# Altium integrated library NXP Semiconductors Automotive MOSFETs.IntLib: 540 symbols (part 5 of 16)
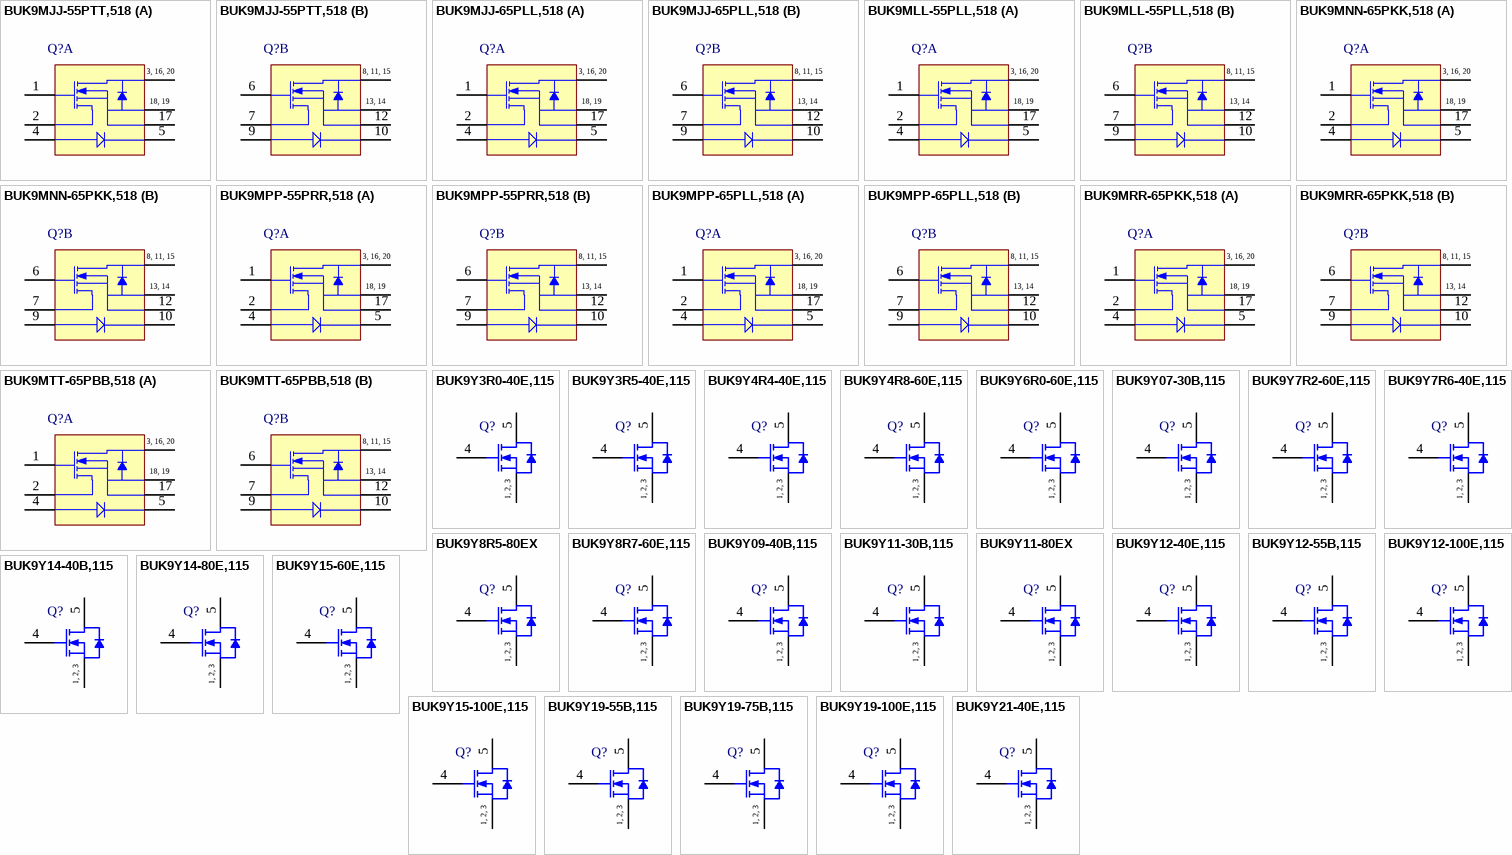
[diagram p18: symbols BUK9MJJ-55PTT,518 to BUK9Y21-40E,115]

## BUK9Y4R4-40E,115
designator Q?
N-Channel Logic Level MOSFET, 40 V, 100 A, 5-Pin SOT669, Tape and Reel; Manufacturer: NXP Semiconductors; PartNumber: BUK9Y4R4-40E,115; Automotive Qualified: Y; Channel Type: N; ID [max] (A): 100; IDM [max] (A): 516; Packing: Tape & Reel; Qr [typ] (nC): 16.5; VDS [max] (V): 40; VGSth [typ] (V): 1.7; PackageVersion: 13-02-27, 02/2013; PackageReference: SOT669; PackageDescription: 4-Pin Plastic Single-ended Surface Mounted Package, Body 4.9 x 3.95 mm, Pitch 1.27 mm; Supplier 1: Digi-Key; Supplier Part Number 1: 568-10982-2-ND; Supplier 2: Digi-Key; Supplier Part Number 2: 568-10982-1-ND; Supplier 3: Digi-Key; Supplier Part Number 3: 568-10982-6-ND; Supplier 4: Mouser; Supplier Part Number 4: 771-BUK9Y4R4-40E115; Mounting Technology: Surface Mount; Code_JEDEC: MO-235; ComponentLink1Description: Manufacturer URL; ComponentLink1URL: http://www.nxp.com/; ComponentLink2Description: Datasheet; ComponentLink2URL: http://www.nxp.com/documents/data_sheet/BUK9Y4R4-40E.pdf; ComponentLink3Description: Package Specification; ComponentLink3URL: http://www.nxp.com/documents/outline_drawing/sot669_po.pdf
footprint NXP-SOT669_N (DPAK, 4-Leads, Body 5x4.1mm, Pitch 1.27mm, IPC Medium Density)
footprint NXP-SOT669_L (DPAK, 4-Leads, Body 5x4.1mm, Pitch 1.27mm, IPC High Density)
footprint NXP-SOT669_M (DPAK, 4-Leads, Body 5x4.1mm, Pitch 1.27mm, IPC Low Density)
pins: 1 S "source", 2 S "source", 3 S "source", 4 G "gate", 5 D "mounting base; connected to drain"
text: 1, 2, 3

## BUK9Y4R8-60E,115
designator Q?
N-Channel Logic Level MOSFET, 60 V, 100 A, 5-Pin SOT669, Tape and Reel; Manufacturer: NXP Semiconductors; PartNumber: BUK9Y4R8-60E,115; Automotive Qualified: Y; Channel Type: N; ID [max] (A): 100; IDM [max] (A): 593; Packing: Tape & Reel; Qr [typ] (nC): 28; VDS [max] (V): 60; VGSth [typ] (V): 1.7; PackageVersion: 13-02-27, 02/2013; PackageReference: SOT669; PackageDescription: 4-Pin Plastic Single-ended Surface Mounted Package, Body 4.9 x 3.95 mm, Pitch 1.27 mm; Supplier 1: Digi-Key; Supplier Part Number 1: 568-10983-2-ND; Supplier 2: Digi-Key; Supplier Part Number 2: 568-10983-1-ND; Supplier 3: Digi-Key; Supplier Part Number 3: 568-10983-6-ND; Supplier 4: Mouser; Supplier Part Number 4: 771-BUK9Y4R8-60E115; Mounting Technology: Surface Mount; Code_JEDEC: MO-235; ComponentLink1Description: Manufacturer URL; ComponentLink1URL: http://www.nxp.com/; ComponentLink2Description: Datasheet; ComponentLink2URL: http://www.nxp.com/documents/data_sheet/BUK9Y4R8-60E.pdf; ComponentLink3Description: Package Specification; ComponentLink3URL: http://www.nxp.com/documents/outline_drawing/sot669_po.pdf
footprint NXP-SOT669_N (DPAK, 4-Leads, Body 5x4.1mm, Pitch 1.27mm, IPC Medium Density)
footprint NXP-SOT669_L (DPAK, 4-Leads, Body 5x4.1mm, Pitch 1.27mm, IPC High Density)
footprint NXP-SOT669_M (DPAK, 4-Leads, Body 5x4.1mm, Pitch 1.27mm, IPC Low Density)
pins: 1 S "source", 2 S "source", 3 S "source", 4 G "gate", 5 D "mounting base; connected to drain"
text: 1, 2, 3

## BUK9Y6R0-60E,115
designator Q?
N-Channel Logic Level MOSFET, 60 V, 100 A, 5-Pin SOT669, Tape and Reel; Manufacturer: NXP Semiconductors; PartNumber: BUK9Y6R0-60E,115; Automotive Qualified: Y; Channel Type: N; ID [max] (A): 100; IDM [max] (A): 479; Packing: Tape & Reel; Qr [typ] (nC): 23; VDS [max] (V): 60; VGSth [typ] (V): 1.7; PackageVersion: 13-02-27, 02/2013; PackageReference: SOT669; PackageDescription: 4-Pin Plastic Single-ended Surface Mounted Package, Body 4.9 x 3.95 mm, Pitch 1.27 mm; Supplier 1: Digi-Key; Supplier Part Number 1: 568-10984-2-ND; Supplier 2: Digi-Key; Supplier Part Number 2: 568-10984-1-ND; Supplier 3: Digi-Key; Supplier Part Number 3: 568-10984-6-ND; Supplier 4: Mouser; Supplier Part Number 4: 771-BUK9Y6R0-60E115; Mounting Technology: Surface Mount; Code_JEDEC: MO-235; ComponentLink1Description: Manufacturer URL; ComponentLink1URL: http://www.nxp.com/; ComponentLink2Description: Datasheet; ComponentLink2URL: http://www.nxp.com/documents/data_sheet/BUK9Y6R0-60E.pdf; ComponentLink3Description: Package Specification; ComponentLink3URL: http://www.nxp.com/documents/outline_drawing/sot669_po.pdf
footprint NXP-SOT669_N (DPAK, 4-Leads, Body 5x4.1mm, Pitch 1.27mm, IPC Medium Density)
footprint NXP-SOT669_L (DPAK, 4-Leads, Body 5x4.1mm, Pitch 1.27mm, IPC High Density)
footprint NXP-SOT669_M (DPAK, 4-Leads, Body 5x4.1mm, Pitch 1.27mm, IPC Low Density)
pins: 1 S "source", 2 S "source", 3 S "source", 4 G "gate", 5 D "mounting base; connected to drain"
text: 1, 2, 3

## BUK9Y07-30B,115
designator Q?
N-Channel TrenchMOS Logic Level FET, 30 V, 75 A, 5-Pin SOT669, Tape and Reel; Manufacturer: NXP Semiconductors; PartNumber: BUK9Y07-30B,115; Automotive Qualified: Y; Channel Type: N; ID [max] (A): 75; IDM [max] (A): 356; Packing: Tape & Reel; Qr [typ] (nC): 53.7; VDS [max] (V): 30; VGSth [typ] (V): 1.5; DatasheetVersion: Rev. 03; PackageVersion: 13-02-27, 02/2013; PackageReference: SOT669; PackageDescription: 4-Pin Plastic Single-ended Surface Mounted Package, Body 4.9 x 3.95 mm, Pitch 1.27 mm; Supplier 1: Digi-Key; Supplier Part Number 1: 568-5522-2-ND; Supplier 2: Digi-Key; Supplier Part Number 2: 568-5522-1-ND; Supplier 3: Digi-Key; Supplier Part Number 3: 568-5522-6-ND; Supplier 4: Mouser; Supplier Part Number 4: 771-BUK9Y07-30B115; Mounting Technology: Surface Mount; Code_JEDEC: MO-235; ComponentLink1Description: Manufacturer URL; ComponentLink1URL: http://www.nxp.com/; ComponentLink2Description: Datasheet; ComponentLink2URL: http://www.nxp.com/documents/data_sheet/BUK9Y07-30B.pdf; ComponentLink3Description: Package Specification; ComponentLink3URL: http://www.nxp.com/documents/outline_drawing/sot669_po.pdf
footprint NXP-SOT669_N (DPAK, 4-Leads, Body 5x4.1mm, Pitch 1.27mm, IPC Medium Density)
footprint NXP-SOT669_L (DPAK, 4-Leads, Body 5x4.1mm, Pitch 1.27mm, IPC High Density)
footprint NXP-SOT669_M (DPAK, 4-Leads, Body 5x4.1mm, Pitch 1.27mm, IPC Low Density)
pins: 1 S "source", 2 S "source", 3 S "source", 4 G "gate", 5 D "mounting base; connected to drain"
text: 1, 2, 3

## BUK9Y7R2-60E,115
designator Q?
N-Channel Logic Level MOSFET, 60 V, 100 A, 5-Pin SOT669, Tape and Reel; Manufacturer: NXP Semiconductors; PartNumber: BUK9Y7R2-60E,115; Automotive Qualified: Y; Channel Type: N; ID [max] (A): 100; IDM [max] (A): 405; Packing: Tape & Reel; Qr [typ] (nC): 18.1; VDS [max] (V): 60; VGSth [typ] (V): 1.7; PackageVersion: 13-02-27, 02/2013; PackageReference: SOT669; PackageDescription: 4-Pin Plastic Single-ended Surface Mounted Package, Body 4.9 x 3.95 mm, Pitch 1.27 mm; Supplier 1: Digi-Key; Supplier Part Number 1: 568-11428-2-ND; Supplier 2: Digi-Key; Supplier Part Number 2: 568-11428-1-ND; Supplier 3: Digi-Key; Supplier Part Number 3: 568-11428-6-ND; Supplier 4: Mouser; Supplier Part Number 4: 771-BUK9Y7R2-60E115; Mounting Technology: Surface Mount; Code_JEDEC: MO-235; ComponentLink1Description: Manufacturer URL; ComponentLink1URL: http://www.nxp.com/; ComponentLink2Description: Datasheet; ComponentLink2URL: http://www.nxp.com/documents/data_sheet/BUK9Y7R2-60E.pdf; ComponentLink3Description: Package Specification; ComponentLink3URL: http://www.nxp.com/documents/outline_drawing/sot669_po.pdf
footprint NXP-SOT669_N (DPAK, 4-Leads, Body 5x4.1mm, Pitch 1.27mm, IPC Medium Density)
footprint NXP-SOT669_L (DPAK, 4-Leads, Body 5x4.1mm, Pitch 1.27mm, IPC High Density)
footprint NXP-SOT669_M (DPAK, 4-Leads, Body 5x4.1mm, Pitch 1.27mm, IPC Low Density)
pins: 1 S "source", 2 S "source", 3 S "source", 4 G "gate", 5 D "mounting base; connected to drain"
text: 1, 2, 3

## BUK9Y7R6-40E,115
designator Q?
N-Channel Logic Level MOSFET, 40 V, 79 A, 5-Pin SOT669, Tape and Reel; Manufacturer: NXP Semiconductors; PartNumber: BUK9Y7R6-40E,115; Automotive Qualified: Y; Channel Type: N; ID [max] (A): 79; IDM [max] (A): 315; Packing: Tape & Reel; Qr [typ] (nC): 8.1; VDS [max] (V): 40; VGSth [typ] (V): 1.7; PackageVersion: 13-02-27, 02/2013; PackageReference: SOT669; PackageDescription: 4-Pin Plastic Single-ended Surface Mounted Package, Body 4.9 x 3.95 mm, Pitch 1.27 mm; Supplier 1: Digi-Key; Supplier Part Number 1: 568-10281-2-ND; Supplier 2: Digi-Key; Supplier Part Number 2: 568-10281-1-ND; Supplier 3: Digi-Key; Supplier Part Number 3: 568-10281-6-ND; Supplier 4: Mouser; Supplier Part Number 4: 771-BUK9Y7R6-40E115; Mounting Technology: Surface Mount; Code_JEDEC: MO-235; ComponentLink1Description: Manufacturer URL; ComponentLink1URL: http://www.nxp.com/; ComponentLink2Description: Datasheet; ComponentLink2URL: http://www.nxp.com/documents/data_sheet/BUK9Y7R6-40E.pdf; ComponentLink3Description: Package Specification; ComponentLink3URL: http://www.nxp.com/documents/outline_drawing/sot669_po.pdf
footprint NXP-SOT669_N (DPAK, 4-Leads, Body 5x4.1mm, Pitch 1.27mm, IPC Medium Density)
footprint NXP-SOT669_L (DPAK, 4-Leads, Body 5x4.1mm, Pitch 1.27mm, IPC High Density)
footprint NXP-SOT669_M (DPAK, 4-Leads, Body 5x4.1mm, Pitch 1.27mm, IPC Low Density)
pins: 1 S "source", 2 S "source", 3 S "source", 4 G "gate", 5 D "mounting base; connected to drain"
text: 1, 2, 3

## BUK9Y8R5-80EX
designator Q?
N-Channel Logic Level MOSFET, 80 V, 100 A, 5-Pin SOT669, Tape and Reel; Manufacturer: NXP Semiconductors; PartNumber: BUK9Y8R5-80EX; Automotive Qualified: Y; Channel Type: N; ID [max] (A): 100; IDM [max] (A): 423; Packing: Tape & Reel; Qr [typ] (nC): 36.3; VDS [max] (V): 80; VGSth [typ] (V): 1.7; PackageVersion: 13-02-27, 02/2013; PackageReference: SOT669; PackageDescription: 4-Pin Plastic Single-ended Surface Mounted Package, Body 4.9 x 3.95 mm, Pitch 1.27 mm; Supplier 1: Digi-Key; Supplier Part Number 1: 568-10282-2-ND; Supplier 2: Digi-Key; Supplier Part Number 2: 568-10282-1-ND; Supplier 3: Digi-Key; Supplier Part Number 3: 568-10282-6-ND; Supplier 4: Mouser; Supplier Part Number 4: 771-BUK9Y8R5-80EX; Mounting Technology: Surface Mount; Code_JEDEC: MO-235; ComponentLink1Description: Manufacturer URL; ComponentLink1URL: http://www.nxp.com/; ComponentLink2Description: Datasheet; ComponentLink2URL: http://www.nxp.com/documents/data_sheet/BUK9Y8R5-80E.pdf; ComponentLink3Description: Package Specification; ComponentLink3URL: http://www.nxp.com/documents/outline_drawing/sot669_po.pdf
footprint NXP-SOT669_N (DPAK, 4-Leads, Body 5x4.1mm, Pitch 1.27mm, IPC Medium Density)
footprint NXP-SOT669_L (DPAK, 4-Leads, Body 5x4.1mm, Pitch 1.27mm, IPC High Density)
footprint NXP-SOT669_M (DPAK, 4-Leads, Body 5x4.1mm, Pitch 1.27mm, IPC Low Density)
pins: 1 S "source", 2 S "source", 3 S "source", 4 G "gate", 5 D "mounting base; connected to drain"
text: 1, 2, 3

## BUK9Y8R7-60E,115
designator Q?
N-Channel Logic Level MOSFET, 60 V, 86 A, 5-Pin SOT669, Tape and Reel; Manufacturer: NXP Semiconductors; PartNumber: BUK9Y8R7-60E,115; Automotive Qualified: Y; Channel Type: N; ID [max] (A): 86; IDM [max] (A): 346; Packing: Tape & Reel; Qr [typ] (nC): 22.3; VDS [max] (V): 60; VGSth [typ] (V): 1.7; PackageVersion: 13-02-27, 02/2013; PackageReference: SOT669; PackageDescription: 4-Pin Plastic Single-ended Surface Mounted Package, Body 4.9 x 3.95 mm, Pitch 1.27 mm; Supplier 1: Digi-Key; Supplier Part Number 1: 568-10283-2-ND; Supplier 2: Digi-Key; Supplier Part Number 2: 568-10283-1-ND; Supplier 3: Digi-Key; Supplier Part Number 3: 568-10283-6-ND; Supplier 4: Mouser; Supplier Part Number 4: 771-BUK9Y8R7-60E115; Mounting Technology: Surface Mount; Code_JEDEC: MO-235; ComponentLink1Description: Manufacturer URL; ComponentLink1URL: http://www.nxp.com/; ComponentLink2Description: Datasheet; ComponentLink2URL: http://www.nxp.com/documents/data_sheet/BUK9Y8R7-60E.pdf; ComponentLink3Description: Package Specification; ComponentLink3URL: http://www.nxp.com/documents/outline_drawing/sot669_po.pdf
footprint NXP-SOT669_N (DPAK, 4-Leads, Body 5x4.1mm, Pitch 1.27mm, IPC Medium Density)
footprint NXP-SOT669_L (DPAK, 4-Leads, Body 5x4.1mm, Pitch 1.27mm, IPC High Density)
footprint NXP-SOT669_M (DPAK, 4-Leads, Body 5x4.1mm, Pitch 1.27mm, IPC Low Density)
pins: 1 S "source", 2 S "source", 3 S "source", 4 G "gate", 5 D "mounting base; connected to drain"
text: 1, 2, 3

## BUK9Y09-40B,115
designator Q?
N-Channel TrenchMOS Logic Level FET, 40 V, 75 A, 5-Pin SOT669, Tape and Reel; Manufacturer: NXP Semiconductors; PartNumber: BUK9Y09-40B,115; Automotive Qualified: Y; Channel Type: N; ID [max] (A): 75; IDM [max] (A): 300; Packing: Tape & Reel; Qr [typ] (nC): 66; VDS [max] (V): 40; VGSth [typ] (V): 1.65; DatasheetVersion: Rev. 04; PackageVersion: 13-02-27, 02/2013; PackageReference: SOT669; PackageDescription: 4-Pin Plastic Single-ended Surface Mounted Package, Body 4.9 x 3.95 mm, Pitch 1.27 mm; Supplier 1: Digi-Key; Supplier Part Number 1: 568-5523-2-ND; Supplier 2: Digi-Key; Supplier Part Number 2: 568-5523-1-ND; Supplier 3: Digi-Key; Supplier Part Number 3: 568-5523-6-ND; Supplier 4: Mouser; Supplier Part Number 4: 771-BUK9Y0940B115; Mounting Technology: Surface Mount; Code_JEDEC: MO-235; ComponentLink1Description: Manufacturer URL; ComponentLink1URL: http://www.nxp.com/; ComponentLink2Description: Datasheet; ComponentLink2URL: http://www.nxp.com/documents/data_sheet/BUK9Y09-40B.pdf; ComponentLink3Description: Package Specification; ComponentLink3URL: http://www.nxp.com/documents/outline_drawing/sot669_po.pdf
footprint NXP-SOT669_N (DPAK, 4-Leads, Body 5x4.1mm, Pitch 1.27mm, IPC Medium Density)
footprint NXP-SOT669_L (DPAK, 4-Leads, Body 5x4.1mm, Pitch 1.27mm, IPC High Density)
footprint NXP-SOT669_M (DPAK, 4-Leads, Body 5x4.1mm, Pitch 1.27mm, IPC Low Density)
pins: 1 S "source", 2 S "source", 3 S "source", 4 G "gate", 5 D "mounting base; connected to drain"
text: 1, 2, 3

## BUK9Y11-30B,115
designator Q?
N-Channel TrenchMOS Logic Level FET, 30 V, 59 A, 5-Pin SOT669, Tape and Reel; Manufacturer: NXP Semiconductors; PartNumber: BUK9Y11-30B,115; Automotive Qualified: Y; Channel Type: N; ID [max] (A): 59; IDM [max] (A): 239; Packing: Tape & Reel; Qr [typ] (nC): 20; VDS [max] (V): 30; VGSth [typ] (V): 1.5; DatasheetVersion: Rev. 01; PackageVersion: 13-02-27, 02/2013; PackageReference: SOT669; PackageDescription: 4-Pin Plastic Single-ended Surface Mounted Package, Body 4.9 x 3.95 mm, Pitch 1.27 mm; Supplier 1: Digi-Key; Supplier Part Number 1: 568-6233-2-ND; Supplier 2: Digi-Key; Supplier Part Number 2: 568-6233-1-ND; Supplier 3: Digi-Key; Supplier Part Number 3: 568-6233-6-ND; Supplier 4: Newark; Supplier Part Number 4: 79R1852; Supplier 5: Mouser; Supplier Part Number 5: 771-BUK9Y11-30B,115; Mounting Technology: Surface Mount; Code_JEDEC: MO-235; ComponentLink1Description: Manufacturer URL; ComponentLink1URL: http://www.nxp.com/; ComponentLink2Description: Datasheet; ComponentLink2URL: http://www.nxp.com/documents/data_sheet/BUK9Y11-30B.pdf; ComponentLink3Description: Package Specification; ComponentLink3URL: http://www.nxp.com/documents/outline_drawing/sot669_po.pdf
footprint NXP-SOT669_N (DPAK, 4-Leads, Body 5x4.1mm, Pitch 1.27mm, IPC Medium Density)
footprint NXP-SOT669_L (DPAK, 4-Leads, Body 5x4.1mm, Pitch 1.27mm, IPC High Density)
footprint NXP-SOT669_M (DPAK, 4-Leads, Body 5x4.1mm, Pitch 1.27mm, IPC Low Density)
pins: 1 S "source", 2 S "source", 3 S "source", 4 G "gate", 5 D "mounting base; connected to drain"
text: 1, 2, 3

## BUK9Y11-80EX
designator Q?
N-Channel Logic Level MOSFET, 80 V, 84 A, 5-Pin SOT669, Tape and Reel; Manufacturer: NXP Semiconductors; PartNumber: BUK9Y11-80EX; Automotive Qualified: Y; Channel Type: N; ID [max] (A): 84; IDM [max] (A): 336; Packing: Tape & Reel; Qr [typ] (nC): 32; VDS [max] (V): 80; VGSth [typ] (V): 1.7; PackageVersion: 13-02-27, 02/2013; PackageReference: SOT669; PackageDescription: 4-Pin Plastic Single-ended Surface Mounted Package, Body 4.9 x 3.95 mm, Pitch 1.27 mm; Supplier 1: Digi-Key; Supplier Part Number 1: 568-10275-2-ND; Supplier 2: Digi-Key; Supplier Part Number 2: 568-10275-1-ND; Supplier 3: Digi-Key; Supplier Part Number 3: 568-10275-6-ND; Supplier 4: Mouser; Supplier Part Number 4: 771-BUK9Y11-80EX; Mounting Technology: Surface Mount; Code_JEDEC: MO-235; ComponentLink1Description: Manufacturer URL; ComponentLink1URL: http://www.nxp.com/; ComponentLink2Description: Datasheet; ComponentLink2URL: http://www.nxp.com/documents/data_sheet/BUK9Y11-80E.pdf; ComponentLink3Description: Package Specification; ComponentLink3URL: http://www.nxp.com/documents/outline_drawing/sot669_po.pdf
footprint NXP-SOT669_N (DPAK, 4-Leads, Body 5x4.1mm, Pitch 1.27mm, IPC Medium Density)
footprint NXP-SOT669_L (DPAK, 4-Leads, Body 5x4.1mm, Pitch 1.27mm, IPC High Density)
footprint NXP-SOT669_M (DPAK, 4-Leads, Body 5x4.1mm, Pitch 1.27mm, IPC Low Density)
pins: 1 S "source", 2 S "source", 3 S "source", 4 G "gate", 5 D "mounting base; connected to drain"
text: 1, 2, 3

## BUK9Y12-40E,115
designator Q?
N-Channel Logic Level MOSFET, 40 V, 52 A, 5-Pin SOT669, Tape and Reel; Manufacturer: NXP Semiconductors; PartNumber: BUK9Y12-40E,115; Automotive Qualified: Y; Channel Type: N; ID [max] (A): 52; IDM [max] (A): 208; Packing: Tape & Reel; Qr [typ] (nC): 6; VDS [max] (V): 40; VGSth [typ] (V): 1.7; PackageVersion: 13-02-27, 02/2013; PackageReference: SOT669; PackageDescription: 4-Pin Plastic Single-ended Surface Mounted Package, Body 4.9 x 3.95 mm, Pitch 1.27 mm; Supplier 1: Digi-Key; Supplier Part Number 1: 568-10277-2-ND; Supplier 2: Digi-Key; Supplier Part Number 2: 568-10277-1-ND; Supplier 3: Digi-Key; Supplier Part Number 3: 568-10277-6-ND; Supplier 4: Mouser; Supplier Part Number 4: 771-BUK9Y12-40E115; Mounting Technology: Surface Mount; Code_JEDEC: MO-235; ComponentLink1Description: Manufacturer URL; ComponentLink1URL: http://www.nxp.com/; ComponentLink2Description: Datasheet; ComponentLink2URL: http://www.nxp.com/documents/data_sheet/BUK9Y12-40E.pdf; ComponentLink3Description: Package Specification; ComponentLink3URL: http://www.nxp.com/documents/outline_drawing/sot669_po.pdf
footprint NXP-SOT669_N (DPAK, 4-Leads, Body 5x4.1mm, Pitch 1.27mm, IPC Medium Density)
footprint NXP-SOT669_L (DPAK, 4-Leads, Body 5x4.1mm, Pitch 1.27mm, IPC High Density)
footprint NXP-SOT669_M (DPAK, 4-Leads, Body 5x4.1mm, Pitch 1.27mm, IPC Low Density)
pins: 1 S "source", 2 S "source", 3 S "source", 4 G "gate", 5 D "mounting base; connected to drain"
text: 1, 2, 3

## BUK9Y12-55B,115
designator Q?
N-Channel TrenchMOS Logic Level FET, 55 V, 61.8 A, 5-Pin SOT669, Tape and Reel; Manufacturer: NXP Semiconductors; PartNumber: BUK9Y12-55B,115; Automotive Qualified: Y; Channel Type: N; ID [max] (A): 61.8; IDM [max] (A): 247; Packing: Tape & Reel; Qr [typ] (nC): 83; VDS [max] (V): 55; VGSth [typ] (V): 1.65; DatasheetVersion: Rev. 04; PackageVersion: 13-02-27, 02/2013; PackageReference: SOT669; PackageDescription: 4-Pin Plastic Single-ended Surface Mounted Package, Body 4.9 x 3.95 mm, Pitch 1.27 mm; Supplier 1: Digi-Key; Supplier Part Number 1: 568-5525-2-ND; Supplier 2: Digi-Key; Supplier Part Number 2: 568-5525-1-ND; Supplier 3: Digi-Key; Supplier Part Number 3: 568-5525-6-ND; Supplier 4: Mouser; Supplier Part Number 4: 771-BUK9Y12-55B115; Mounting Technology: Surface Mount; Code_JEDEC: MO-235; ComponentLink1Description: Manufacturer URL; ComponentLink1URL: http://www.nxp.com/; ComponentLink2Description: Datasheet; ComponentLink2URL: http://www.nxp.com/documents/data_sheet/BUK9Y12-55B.pdf; ComponentLink3Description: Package Specification; ComponentLink3URL: http://www.nxp.com/documents/outline_drawing/sot669_po.pdf
footprint NXP-SOT669_N (DPAK, 4-Leads, Body 5x4.1mm, Pitch 1.27mm, IPC Medium Density)
footprint NXP-SOT669_L (DPAK, 4-Leads, Body 5x4.1mm, Pitch 1.27mm, IPC High Density)
footprint NXP-SOT669_M (DPAK, 4-Leads, Body 5x4.1mm, Pitch 1.27mm, IPC Low Density)
pins: 1 S "source", 2 S "source", 3 S "source", 4 G "gate", 5 D "mounting base; connected to drain"
text: 1, 2, 3

## BUK9Y12-100E,115
designator Q?
N-Channel Logic Level MOSFET, 100 V, 85 A, 5-Pin SOT669, Tape and Reel; Manufacturer: NXP Semiconductors; PartNumber: BUK9Y12-100E,115; Automotive Qualified: Y; Channel Type: N; ID [max] (A): 85; IDM [max] (A): 339; Packing: Tape & Reel; Qr [typ] (nC): 65; VDS [max] (V): 100; VGSth [typ] (V): 1.7; PackageVersion: 13-02-27, 02/2013; PackageReference: SOT669; PackageDescription: 4-Pin Plastic Single-ended Surface Mounted Package, Body 4.9 x 3.95 mm, Pitch 1.27 mm; Supplier 1: Digi-Key; Supplier Part Number 1: 568-10276-2-ND; Supplier 2: Digi-Key; Supplier Part Number 2: 568-10276-1-ND; Supplier 3: Digi-Key; Supplier Part Number 3: 568-10276-6-ND; Supplier 4: Mouser; Supplier Part Number 4: 771-BUK9Y12-100E115; Mounting Technology: Surface Mount; Code_JEDEC: MO-235; ComponentLink1Description: Manufacturer URL; ComponentLink1URL: http://www.nxp.com/; ComponentLink2Description: Datasheet; ComponentLink2URL: http://www.nxp.com/documents/data_sheet/BUK9Y12-100E.pdf; ComponentLink3Description: Package Specification; ComponentLink3URL: http://www.nxp.com/documents/outline_drawing/sot669_po.pdf
footprint NXP-SOT669_N (DPAK, 4-Leads, Body 5x4.1mm, Pitch 1.27mm, IPC Medium Density)
footprint NXP-SOT669_L (DPAK, 4-Leads, Body 5x4.1mm, Pitch 1.27mm, IPC High Density)
footprint NXP-SOT669_M (DPAK, 4-Leads, Body 5x4.1mm, Pitch 1.27mm, IPC Low Density)
pins: 1 S "source", 2 S "source", 3 S "source", 4 G "gate", 5 D "mounting base; connected to drain"
text: 1, 2, 3

## BUK9Y14-40B,115
designator Q?
N-Channel TrenchMOS Logic Level FET, 40 V, 56 A, 5-Pin SOT669, Tape and Reel; Manufacturer: NXP Semiconductors; PartNumber: BUK9Y14-40B,115; Automotive Qualified: Y; Channel Type: N; ID [max] (A): 56; IDM [max] (A): 226; Packing: Tape & Reel; Qr [typ] (nC): 26; VDS [max] (V): 40; VGSth [typ] (V): 1.5; DatasheetVersion: Rev. 03; PackageVersion: 13-02-27, 02/2013; PackageReference: SOT669; PackageDescription: 4-Pin Plastic Single-ended Surface Mounted Package, Body 4.9 x 3.95 mm, Pitch 1.27 mm; Supplier 1: Digi-Key; Supplier Part Number 1: 568-6234-2-ND; Supplier 2: Digi-Key; Supplier Part Number 2: 568-6234-1-ND; Supplier 3: Digi-Key; Supplier Part Number 3: 568-6234-6-ND; Supplier 4: Newark; Supplier Part Number 4: 79R1853; Supplier 5: Mouser; Supplier Part Number 5: 771-BUK9Y14-40B,115; Mounting Technology: Surface Mount; Code_JEDEC: MO-235; ComponentLink1Description: Manufacturer URL; ComponentLink1URL: http://www.nxp.com/; ComponentLink2Description: Datasheet; ComponentLink2URL: http://www.nxp.com/documents/data_sheet/BUK9Y14-40B.pdf; ComponentLink3Description: Package Specification; ComponentLink3URL: http://www.nxp.com/documents/outline_drawing/sot669_po.pdf
footprint NXP-SOT669_N (DPAK, 4-Leads, Body 5x4.1mm, Pitch 1.27mm, IPC Medium Density)
footprint NXP-SOT669_L (DPAK, 4-Leads, Body 5x4.1mm, Pitch 1.27mm, IPC High Density)
footprint NXP-SOT669_M (DPAK, 4-Leads, Body 5x4.1mm, Pitch 1.27mm, IPC Low Density)
pins: 1 S "source", 2 S "source", 3 S "source", 4 G "gate", 5 D "mounting base; connected to drain"
text: 1, 2, 3

## BUK9Y14-80E,115
designator Q?
N-Channel Logic Level MOSFET, 80 V, 62 A, 5-Pin SOT669, Tape and Reel; Manufacturer: NXP Semiconductors; PartNumber: BUK9Y14-80E,115; Automotive Qualified: Y; Channel Type: N; ID [max] (A): 62; IDM [max] (A): 250; Packing: Tape & Reel; Qr [typ] (nC): 29.3; VDS [max] (V): 80; VGSth [typ] (V): 1.7; PackageVersion: 13-02-27, 02/2013; PackageReference: SOT669; PackageDescription: 4-Pin Plastic Single-ended Surface Mounted Package, Body 4.9 x 3.95 mm, Pitch 1.27 mm; Supplier 1: Digi-Key; Supplier Part Number 1: 568-11424-2-ND; Supplier 2: Digi-Key; Supplier Part Number 2: 568-11424-1-ND; Supplier 3: Digi-Key; Supplier Part Number 3: 568-11424-6-ND; Supplier 4: Mouser; Supplier Part Number 4: 771-BUK9Y14-80E115; Mounting Technology: Surface Mount; Code_JEDEC: MO-235; ComponentLink1Description: Manufacturer URL; ComponentLink1URL: http://www.nxp.com/; ComponentLink2Description: Datasheet; ComponentLink2URL: http://www.nxp.com/documents/data_sheet/BUK9Y14-80E.pdf; ComponentLink3Description: Package Specification; ComponentLink3URL: http://www.nxp.com/documents/outline_drawing/sot669_po.pdf
footprint NXP-SOT669_N (DPAK, 4-Leads, Body 5x4.1mm, Pitch 1.27mm, IPC Medium Density)
footprint NXP-SOT669_L (DPAK, 4-Leads, Body 5x4.1mm, Pitch 1.27mm, IPC High Density)
footprint NXP-SOT669_M (DPAK, 4-Leads, Body 5x4.1mm, Pitch 1.27mm, IPC Low Density)
pins: 1 S "source", 2 S "source", 3 S "source", 4 G "gate", 5 D "mounting base; connected to drain"
text: 1, 2, 3

## BUK9Y15-60E,115
designator Q?
N-Channel Logic Level MOSFET, 60 V, 53 A, 5-Pin SOT669, Tape and Reel; Manufacturer: NXP Semiconductors; PartNumber: BUK9Y15-60E,115; Automotive Qualified: Y; Channel Type: N; ID [max] (A): 53; IDM [max] (A): 212; Packing: Tape & Reel; Qr [typ] (nC): 18.7; VDS [max] (V): 60; VGSth [typ] (V): 1.7; PackageVersion: 13-02-27, 02/2013; PackageReference: SOT669; PackageDescription: 4-Pin Plastic Single-ended Surface Mounted Package, Body 4.9 x 3.95 mm, Pitch 1.27 mm; Supplier 1: Digi-Key; Supplier Part Number 1: 568-10974-2-ND; Supplier 2: Digi-Key; Supplier Part Number 2: 568-10974-1-ND; Supplier 3: Digi-Key; Supplier Part Number 3: 568-10974-6-ND; Supplier 4: Mouser; Supplier Part Number 4: 771-BUK9Y15-60E115; Mounting Technology: Surface Mount; Code_JEDEC: MO-235; ComponentLink1Description: Manufacturer URL; ComponentLink1URL: http://www.nxp.com/; ComponentLink2Description: Datasheet; ComponentLink2URL: http://www.nxp.com/documents/data_sheet/BUK9Y15-60E.pdf; ComponentLink3Description: Package Specification; ComponentLink3URL: http://www.nxp.com/documents/outline_drawing/sot669_po.pdf
footprint NXP-SOT669_N (DPAK, 4-Leads, Body 5x4.1mm, Pitch 1.27mm, IPC Medium Density)
footprint NXP-SOT669_L (DPAK, 4-Leads, Body 5x4.1mm, Pitch 1.27mm, IPC High Density)
footprint NXP-SOT669_M (DPAK, 4-Leads, Body 5x4.1mm, Pitch 1.27mm, IPC Low Density)
pins: 1 S "source", 2 S "source", 3 S "source", 4 G "gate", 5 D "mounting base; connected to drain"
text: 1, 2, 3

## BUK9Y15-100E,115
designator Q?
N-Channel Logic Level MOSFET, 100 V, 69 A, 5-Pin SOT669, Tape and Reel; Manufacturer: NXP Semiconductors; PartNumber: BUK9Y15-100E,115; Automotive Qualified: Y; Channel Type: N; ID [max] (A): 69; IDM [max] (A): 274; Packing: Tape & Reel; Qr [typ] (nC): 64; VDS [max] (V): 100; VGSth [typ] (V): 1.7; PackageVersion: 13-02-27, 02/2013; PackageReference: SOT669; PackageDescription: 4-Pin Plastic Single-ended Surface Mounted Package, Body 4.9 x 3.95 mm, Pitch 1.27 mm; Supplier 1: Digi-Key; Supplier Part Number 1: 568-10972-2-ND; Supplier 2: Digi-Key; Supplier Part Number 2: 568-10972-1-ND; Supplier 3: Digi-Key; Supplier Part Number 3: 568-10972-6-ND; Supplier 4: Mouser; Supplier Part Number 4: 771-BUK9Y15-100E115; Mounting Technology: Surface Mount; Code_JEDEC: MO-235; ComponentLink1Description: Manufacturer URL; ComponentLink1URL: http://www.nxp.com/; ComponentLink2Description: Datasheet; ComponentLink2URL: http://www.nxp.com/documents/data_sheet/BUK9Y15-100E.pdf; ComponentLink3Description: Package Specification; ComponentLink3URL: http://www.nxp.com/documents/outline_drawing/sot669_po.pdf
footprint NXP-SOT669_N (DPAK, 4-Leads, Body 5x4.1mm, Pitch 1.27mm, IPC Medium Density)
footprint NXP-SOT669_L (DPAK, 4-Leads, Body 5x4.1mm, Pitch 1.27mm, IPC High Density)
footprint NXP-SOT669_M (DPAK, 4-Leads, Body 5x4.1mm, Pitch 1.27mm, IPC Low Density)
pins: 1 S "source", 2 S "source", 3 S "source", 4 G "gate", 5 D "mounting base; connected to drain"
text: 1, 2, 3

## BUK9Y19-55B,115
designator Q?
N-Channel TrenchMOS Logic Level FET, 55 V, 46 A, 5-Pin SOT669, Tape and Reel; Manufacturer: NXP Semiconductors; PartNumber: BUK9Y19-55B,115; Automotive Qualified: Y; Channel Type: N; ID [max] (A): 46; IDM [max] (A): 184; Packing: Tape & Reel; Qr [typ] (nC): 38; VDS [max] (V): 55; VGSth [typ] (V): 1.5; DatasheetVersion: Rev. 03; PackageVersion: 13-02-27, 02/2013; PackageReference: SOT669; PackageDescription: 4-Pin Plastic Single-ended Surface Mounted Package, Body 4.9 x 3.95 mm, Pitch 1.27 mm; Supplier 1: Digi-Key; Supplier Part Number 1: 568-6235-2-ND; Supplier 2: Digi-Key; Supplier Part Number 2: 568-6235-1-ND; Supplier 3: Digi-Key; Supplier Part Number 3: 568-6235-6-ND; Supplier 4: Newark; Supplier Part Number 4: 79R1854; Supplier 5: Mouser; Supplier Part Number 5: 771-BUK9Y19-55B115; Mounting Technology: Surface Mount; Code_JEDEC: MO-235; ComponentLink1Description: Manufacturer URL; ComponentLink1URL: http://www.nxp.com/; ComponentLink2Description: Datasheet; ComponentLink2URL: http://www.nxp.com/documents/data_sheet/BUK9Y19-55B.pdf; ComponentLink3Description: Package Specification; ComponentLink3URL: http://www.nxp.com/documents/outline_drawing/sot669_po.pdf
footprint NXP-SOT669_N (DPAK, 4-Leads, Body 5x4.1mm, Pitch 1.27mm, IPC Medium Density)
footprint NXP-SOT669_L (DPAK, 4-Leads, Body 5x4.1mm, Pitch 1.27mm, IPC High Density)
footprint NXP-SOT669_M (DPAK, 4-Leads, Body 5x4.1mm, Pitch 1.27mm, IPC Low Density)
pins: 1 S "source", 2 S "source", 3 S "source", 4 G "gate", 5 D "mounting base; connected to drain"
text: 1, 2, 3

## BUK9Y19-75B,115
designator Q?
N-Channel TrenchMOS Logic Level FET, 75 V, 48.2 A, 5-Pin SOT669, Tape and Reel; Manufacturer: NXP Semiconductors; PartNumber: BUK9Y19-75B,115; Automotive Qualified: Y; Channel Type: N; ID [max] (A): 48.2; IDM [max] (A): 192; Packing: Tape & Reel; Qr [typ] (nC): 145; VDS [max] (V): 75; VGSth [typ] (V): 1.65; DatasheetVersion: Rev. 04; PackageVersion: 13-02-27, 02/2013; PackageReference: SOT669; PackageDescription: 4-Pin Plastic Single-ended Surface Mounted Package, Body 4.9 x 3.95 mm, Pitch 1.27 mm; Supplier 1: Digi-Key; Supplier Part Number 1: 568-5526-2-ND; Supplier 2: Digi-Key; Supplier Part Number 2: 568-5526-1-ND; Supplier 3: Digi-Key; Supplier Part Number 3: 568-5526-6-ND; Supplier 4: Mouser; Supplier Part Number 4: 771-BUK9Y19-75B115; Mounting Technology: Surface Mount; Code_JEDEC: MO-235; ComponentLink1Description: Manufacturer URL; ComponentLink1URL: http://www.nxp.com/; ComponentLink2Description: Datasheet; ComponentLink2URL: http://www.nxp.com/documents/data_sheet/BUK9Y19-75B.pdf; ComponentLink3Description: Package Specification; ComponentLink3URL: http://www.nxp.com/documents/outline_drawing/sot669_po.pdf
footprint NXP-SOT669_N (DPAK, 4-Leads, Body 5x4.1mm, Pitch 1.27mm, IPC Medium Density)
footprint NXP-SOT669_L (DPAK, 4-Leads, Body 5x4.1mm, Pitch 1.27mm, IPC High Density)
footprint NXP-SOT669_M (DPAK, 4-Leads, Body 5x4.1mm, Pitch 1.27mm, IPC Low Density)
pins: 1 S "source", 2 S "source", 3 S "source", 4 G "gate", 5 D "mounting base; connected to drain"
text: 1, 2, 3

## BUK9Y19-100E,115
designator Q?
N-Channel Logic Level MOSFET, 100 V, 56 A, 5-Pin SOT669, Tape and Reel; Manufacturer: NXP Semiconductors; PartNumber: BUK9Y19-100E,115; Automotive Qualified: Y; Channel Type: N; ID [max] (A): 56; IDM [max] (A): 226; Packing: Tape & Reel; Qr [typ] (nC): 67.7; VDS [max] (V): 100; VGSth [typ] (V): 1.7; PackageVersion: 13-02-27, 02/2013; PackageReference: SOT669; PackageDescription: 4-Pin Plastic Single-ended Surface Mounted Package, Body 4.9 x 3.95 mm, Pitch 1.27 mm; Supplier 1: Digi-Key; Supplier Part Number 1: 568-11546-2-ND; Supplier 2: Digi-Key; Supplier Part Number 2: 568-11546-1-ND; Supplier 3: Digi-Key; Supplier Part Number 3: 568-11546-6-ND; Supplier 4: Mouser; Supplier Part Number 4: 771-BUK9Y19-100E115; Mounting Technology: Surface Mount; Code_JEDEC: MO-235; ComponentLink1Description: Manufacturer URL; ComponentLink1URL: http://www.nxp.com/; ComponentLink2Description: Datasheet; ComponentLink2URL: http://www.nxp.com/documents/data_sheet/BUK9Y19-100E.pdf; ComponentLink3Description: Package Specification; ComponentLink3URL: http://www.nxp.com/documents/outline_drawing/sot669_po.pdf
footprint NXP-SOT669_N (DPAK, 4-Leads, Body 5x4.1mm, Pitch 1.27mm, IPC Medium Density)
footprint NXP-SOT669_L (DPAK, 4-Leads, Body 5x4.1mm, Pitch 1.27mm, IPC High Density)
footprint NXP-SOT669_M (DPAK, 4-Leads, Body 5x4.1mm, Pitch 1.27mm, IPC Low Density)
pins: 1 S "source", 2 S "source", 3 S "source", 4 G "gate", 5 D "mounting base; connected to drain"
text: 1, 2, 3

## BUK9Y21-40E,115
designator Q?
N-Channel Logic Level MOSFET, 40 V, 33 A, 5-Pin SOT669, Tape and Reel; Manufacturer: NXP Semiconductors; PartNumber: BUK9Y21-40E,115; Automotive Qualified: Y; Channel Type: N; ID [max] (A): 33; IDM [max] (A): 131; Packing: Tape & Reel; Qr [typ] (nC): 7; VDS [max] (V): 40; VGSth [typ] (V): 1.7; PackageVersion: 13-02-27, 02/2013; PackageReference: SOT669; PackageDescription: 4-Pin Plastic Single-ended Surface Mounted Package, Body 4.9 x 3.95 mm, Pitch 1.27 mm; Supplier 1: Digi-Key; Supplier Part Number 1: 568-10278-2-ND; Supplier 2: Digi-Key; Supplier Part Number 2: 568-10278-1-ND; Supplier 3: Digi-Key; Supplier Part Number 3: 568-10278-6-ND; Supplier 4: Mouser; Supplier Part Number 4: 771-BUK9Y21-40E115; Mounting Technology: Surface Mount; Code_JEDEC: MO-235; ComponentLink1Description: Manufacturer URL; ComponentLink1URL: http://www.nxp.com/; ComponentLink2Description: Datasheet; ComponentLink2URL: http://www.nxp.com/documents/data_sheet/BUK9Y21-40E.pdf; ComponentLink3Description: Package Specification; ComponentLink3URL: http://www.nxp.com/documents/outline_drawing/sot669_po.pdf
footprint NXP-SOT669_N (DPAK, 4-Leads, Body 5x4.1mm, Pitch 1.27mm, IPC Medium Density)
footprint NXP-SOT669_L (DPAK, 4-Leads, Body 5x4.1mm, Pitch 1.27mm, IPC High Density)
footprint NXP-SOT669_M (DPAK, 4-Leads, Body 5x4.1mm, Pitch 1.27mm, IPC Low Density)
pins: 1 S "source", 2 S "source", 3 S "source", 4 G "gate", 5 D "mounting base; connected to drain"
text: 1, 2, 3

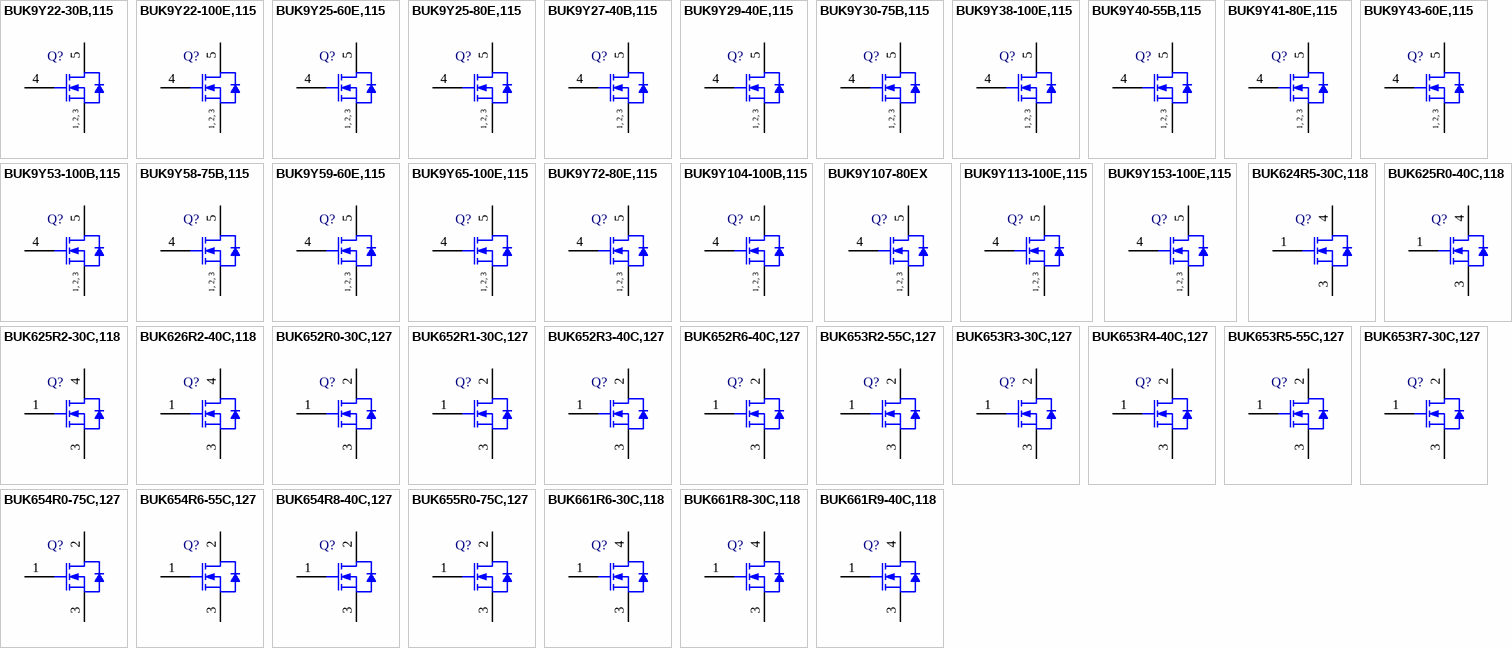
[diagram p5: symbols BUK9Y22-30B,115 to BUK661R9-40C,118]

## BUK9Y22-30B,115
designator Q?
N-Channel TrenchMOS Logic Level FET, 30 V, 37.7 A, 5-Pin SOT669, Tape and Reel; Manufacturer: NXP Semiconductors; PartNumber: BUK9Y22-30B,115; Automotive Qualified: Y; Channel Type: N; ID [max] (A): 37.7; IDM [max] (A): 150.7; Packing: Tape & Reel; Qr [typ] (nC): 33; VDS [max] (V): 30; VGSth [typ] (V): 1.5; DatasheetVersion: Rev. 04; PackageVersion: 13-02-27, 02/2013; PackageReference: SOT669; PackageDescription: 4-Pin Plastic Single-ended Surface Mounted Package, Body 4.9 x 3.95 mm, Pitch 1.27 mm; Supplier 1: Digi-Key; Supplier Part Number 1: 568-5527-2-ND; Supplier 2: Digi-Key; Supplier Part Number 2: 568-5527-1-ND; Supplier 3: Digi-Key; Supplier Part Number 3: 568-5527-6-ND; Supplier 4: Mouser; Supplier Part Number 4: 771-BUK9Y22-30B115; Mounting Technology: Surface Mount; Code_JEDEC: MO-235; ComponentLink1Description: Manufacturer URL; ComponentLink1URL: http://www.nxp.com/; ComponentLink2Description: Datasheet; ComponentLink2URL: http://www.nxp.com/documents/data_sheet/BUK9Y22-30B.pdf; ComponentLink3Description: Package Specification; ComponentLink3URL: http://www.nxp.com/documents/outline_drawing/sot669_po.pdf
footprint NXP-SOT669_N (DPAK, 4-Leads, Body 5x4.1mm, Pitch 1.27mm, IPC Medium Density)
footprint NXP-SOT669_L (DPAK, 4-Leads, Body 5x4.1mm, Pitch 1.27mm, IPC High Density)
footprint NXP-SOT669_M (DPAK, 4-Leads, Body 5x4.1mm, Pitch 1.27mm, IPC Low Density)
pins: 1 S "source", 2 S "source", 3 S "source", 4 G "gate", 5 D "mounting base; connected to drain"
text: 1, 2, 3

## BUK9Y22-100E,115
designator Q?
N-Channel Logic Level MOSFET, 100 V, 49 A, 5-Pin SOT669, Tape and Reel; Manufacturer: NXP Semiconductors; PartNumber: BUK9Y22-100E,115; Automotive Qualified: Y; Channel Type: N; ID [max] (A): 49; IDM [max] (A): 197; Packing: Tape & Reel; Qr [typ] (nC): 66; VDS [max] (V): 100; VGSth [typ] (V): 1.7; PackageVersion: 13-02-27, 02/2013; PackageReference: SOT669; PackageDescription: 4-Pin Plastic Single-ended Surface Mounted Package, Body 4.9 x 3.95 mm, Pitch 1.27 mm; Supplier 1: Digi-Key; Supplier Part Number 1: 568-10975-2-ND; Supplier 2: Digi-Key; Supplier Part Number 2: 568-10975-1-ND; Supplier 3: Digi-Key; Supplier Part Number 3: 568-10975-6-ND; Supplier 4: Mouser; Supplier Part Number 4: 771-BUK9Y22-100E115; Mounting Technology: Surface Mount; Code_JEDEC: MO-235; ComponentLink1Description: Manufacturer URL; ComponentLink1URL: http://www.nxp.com/; ComponentLink2Description: Datasheet; ComponentLink2URL: http://www.nxp.com/documents/data_sheet/BUK9Y22-100E.pdf; ComponentLink3Description: Package Specification; ComponentLink3URL: http://www.nxp.com/documents/outline_drawing/sot669_po.pdf
footprint NXP-SOT669_N (DPAK, 4-Leads, Body 5x4.1mm, Pitch 1.27mm, IPC Medium Density)
footprint NXP-SOT669_L (DPAK, 4-Leads, Body 5x4.1mm, Pitch 1.27mm, IPC High Density)
footprint NXP-SOT669_M (DPAK, 4-Leads, Body 5x4.1mm, Pitch 1.27mm, IPC Low Density)
pins: 1 S "source", 2 S "source", 3 S "source", 4 G "gate", 5 D "mounting base; connected to drain"
text: 1, 2, 3

## BUK9Y25-60E,115
designator Q?
N-Channel Logic Level MOSFET, 60 V, 34 A, 5-Pin SOT669, Tape and Reel; Manufacturer: NXP Semiconductors; PartNumber: BUK9Y25-60E,115; Automotive Qualified: Y; Channel Type: N; ID [max] (A): 34; IDM [max] (A): 135; Packing: Tape & Reel; Qr [typ] (nC): 13.7; VDS [max] (V): 60; VGSth [typ] (V): 1.7; PackageVersion: 13-02-27, 02/2013; PackageReference: SOT669; PackageDescription: 4-Pin Plastic Single-ended Surface Mounted Package, Body 4.9 x 3.95 mm, Pitch 1.27 mm; Supplier 1: Digi-Key; Supplier Part Number 1: 568-10976-2-ND; Supplier 2: Digi-Key; Supplier Part Number 2: 568-10976-1-ND; Supplier 3: Digi-Key; Supplier Part Number 3: 568-10976-6-ND; Supplier 4: Mouser; Supplier Part Number 4: 771-BUK9Y25-60E115; Mounting Technology: Surface Mount; Code_JEDEC: MO-235; ComponentLink1Description: Manufacturer URL; ComponentLink1URL: http://www.nxp.com/; ComponentLink2Description: Datasheet; ComponentLink2URL: http://www.nxp.com/documents/data_sheet/BUK9Y25-60E.pdf; ComponentLink3Description: Package Specification; ComponentLink3URL: http://www.nxp.com/documents/outline_drawing/sot669_po.pdf
footprint NXP-SOT669_N (DPAK, 4-Leads, Body 5x4.1mm, Pitch 1.27mm, IPC Medium Density)
footprint NXP-SOT669_L (DPAK, 4-Leads, Body 5x4.1mm, Pitch 1.27mm, IPC High Density)
footprint NXP-SOT669_M (DPAK, 4-Leads, Body 5x4.1mm, Pitch 1.27mm, IPC Low Density)
pins: 1 S "source", 2 S "source", 3 S "source", 4 G "gate", 5 D "mounting base; connected to drain"
text: 1, 2, 3

## BUK9Y25-80E,115
designator Q?
N-Channel Logic Level MOSFET, 80 V, 37 A, 5-Pin SOT669, Tape and Reel; Manufacturer: NXP Semiconductors; PartNumber: BUK9Y25-80E,115; Automotive Qualified: Y; Channel Type: N; ID [max] (A): 37; IDM [max] (A): 150; Packing: Tape & Reel; Qr [typ] (nC): 27; VDS [max] (V): 80; VGSth [typ] (V): 1.7; PackageVersion: 13-02-27, 02/2013; PackageReference: SOT669; PackageDescription: 4-Pin Plastic Single-ended Surface Mounted Package, Body 4.9 x 3.95 mm, Pitch 1.27 mm; Supplier 1: Digi-Key; Supplier Part Number 1: 568-10279-2-ND; Supplier 2: Digi-Key; Supplier Part Number 2: 568-10279-1-ND; Supplier 3: Digi-Key; Supplier Part Number 3: 568-10279-6-ND; Supplier 4: Mouser; Supplier Part Number 4: 771-BUK9Y25-80E115; Mounting Technology: Surface Mount; Code_JEDEC: MO-235; ComponentLink1Description: Manufacturer URL; ComponentLink1URL: http://www.nxp.com/; ComponentLink2Description: Datasheet; ComponentLink2URL: http://www.nxp.com/documents/data_sheet/BUK9Y25-80E.pdf; ComponentLink3Description: Package Specification; ComponentLink3URL: http://www.nxp.com/documents/outline_drawing/sot669_po.pdf
footprint NXP-SOT669_N (DPAK, 4-Leads, Body 5x4.1mm, Pitch 1.27mm, IPC Medium Density)
footprint NXP-SOT669_L (DPAK, 4-Leads, Body 5x4.1mm, Pitch 1.27mm, IPC High Density)
footprint NXP-SOT669_M (DPAK, 4-Leads, Body 5x4.1mm, Pitch 1.27mm, IPC Low Density)
pins: 1 S "source", 2 S "source", 3 S "source", 4 G "gate", 5 D "mounting base; connected to drain"
text: 1, 2, 3

## BUK9Y27-40B,115
designator Q?
N-Channel TrenchMOS Logic Level FET, 40 V, 34 A, 5-Pin SOT669, Tape and Reel; Manufacturer: NXP Semiconductors; PartNumber: BUK9Y27-40B,115; Automotive Qualified: Y; Channel Type: N; ID [max] (A): 34; IDM [max] (A): 136; Packing: Tape & Reel; Qr [typ] (nC): 35; VDS [max] (V): 40; VGSth [typ] (V): 1.5; DatasheetVersion: Rev. 04; PackageVersion: 13-02-27, 02/2013; PackageReference: SOT669; PackageDescription: 4-Pin Plastic Single-ended Surface Mounted Package, Body 4.9 x 3.95 mm, Pitch 1.27 mm; Supplier 1: Digi-Key; Supplier Part Number 1: 568-5528-2-ND; Supplier 2: Digi-Key; Supplier Part Number 2: 568-5528-1-ND; Supplier 3: Digi-Key; Supplier Part Number 3: 568-5528-6-ND; Supplier 4: Mouser; Supplier Part Number 4: 771-BUK9Y27-40B115; Mounting Technology: Surface Mount; Code_JEDEC: MO-235; ComponentLink1Description: Manufacturer URL; ComponentLink1URL: http://www.nxp.com/; ComponentLink2Description: Datasheet; ComponentLink2URL: http://www.nxp.com/documents/data_sheet/BUK9Y27-40B.pdf; ComponentLink3Description: Package Specification; ComponentLink3URL: http://www.nxp.com/documents/outline_drawing/sot669_po.pdf
footprint NXP-SOT669_N (DPAK, 4-Leads, Body 5x4.1mm, Pitch 1.27mm, IPC Medium Density)
footprint NXP-SOT669_L (DPAK, 4-Leads, Body 5x4.1mm, Pitch 1.27mm, IPC High Density)
footprint NXP-SOT669_M (DPAK, 4-Leads, Body 5x4.1mm, Pitch 1.27mm, IPC Low Density)
pins: 1 S "source", 2 S "source", 3 S "source", 4 G "gate", 5 D "mounting base; connected to drain"
text: 1, 2, 3

## BUK9Y29-40E,115
designator Q?
N-Channel Logic Level MOSFET, 40 V, 25 A, 5-Pin SOT669, Tape and Reel; Manufacturer: NXP Semiconductors; PartNumber: BUK9Y29-40E,115; Automotive Qualified: Y; Channel Type: N; ID [max] (A): 25; IDM [max] (A): 101; Packing: Tape & Reel; Qr [typ] (nC): 6.6; VDS [max] (V): 40; VGSth [typ] (V): 1.7; PackageVersion: 13-02-27, 02/2013; PackageReference: SOT669; PackageDescription: 4-Pin Plastic Single-ended Surface Mounted Package, Body 4.9 x 3.95 mm, Pitch 1.27 mm; Supplier 1: Digi-Key; Supplier Part Number 1: 568-10977-2-ND; Supplier 2: Digi-Key; Supplier Part Number 2: 568-10977-1-ND; Supplier 3: Digi-Key; Supplier Part Number 3: 568-10977-6-ND; Supplier 4: Mouser; Supplier Part Number 4: 771-BUK9Y29-40E115; Mounting Technology: Surface Mount; Code_JEDEC: MO-235; ComponentLink1Description: Manufacturer URL; ComponentLink1URL: http://www.nxp.com/; ComponentLink2Description: Datasheet; ComponentLink2URL: http://www.nxp.com/documents/data_sheet/BUK9Y29-40E.pdf; ComponentLink3Description: Package Specification; ComponentLink3URL: http://www.nxp.com/documents/outline_drawing/sot669_po.pdf
footprint NXP-SOT669_N (DPAK, 4-Leads, Body 5x4.1mm, Pitch 1.27mm, IPC Medium Density)
footprint NXP-SOT669_L (DPAK, 4-Leads, Body 5x4.1mm, Pitch 1.27mm, IPC High Density)
footprint NXP-SOT669_M (DPAK, 4-Leads, Body 5x4.1mm, Pitch 1.27mm, IPC Low Density)
pins: 1 S "source", 2 S "source", 3 S "source", 4 G "gate", 5 D "mounting base; connected to drain"
text: 1, 2, 3

## BUK9Y30-75B,115
designator Q?
N-Channel TrenchMOS Logic Level FET, 75 V, 34 A, 5-Pin SOT669, Tape and Reel; Manufacturer: NXP Semiconductors; PartNumber: BUK9Y30-75B,115; Automotive Qualified: Y; Channel Type: N; ID [max] (A): 34; IDM [max] (A): 137; Packing: Tape & Reel; Qr [typ] (nC): 115; VDS [max] (V): 75; VGSth [typ] (V): 1.5; DatasheetVersion: Rev. 04; PackageVersion: 13-02-27, 02/2013; PackageReference: SOT669; PackageDescription: 4-Pin Plastic Single-ended Surface Mounted Package, Body 4.9 x 3.95 mm, Pitch 1.27 mm; Supplier 1: Digi-Key; Supplier Part Number 1: 568-6236-2-ND; Supplier 2: Digi-Key; Supplier Part Number 2: 568-6236-1-ND; Supplier 3: Digi-Key; Supplier Part Number 3: 568-6236-6-ND; Supplier 4: Newark; Supplier Part Number 4: 79R1855; Supplier 5: Mouser; Supplier Part Number 5: 771-BUK9Y30-75B115; Mounting Technology: Surface Mount; Code_JEDEC: MO-235; ComponentLink1Description: Manufacturer URL; ComponentLink1URL: http://www.nxp.com/; ComponentLink2Description: Datasheet; ComponentLink2URL: http://www.nxp.com/documents/data_sheet/BUK9Y30-75B.pdf; ComponentLink3Description: Package Specification; ComponentLink3URL: http://www.nxp.com/documents/outline_drawing/sot669_po.pdf
footprint NXP-SOT669_N (DPAK, 4-Leads, Body 5x4.1mm, Pitch 1.27mm, IPC Medium Density)
footprint NXP-SOT669_L (DPAK, 4-Leads, Body 5x4.1mm, Pitch 1.27mm, IPC High Density)
footprint NXP-SOT669_M (DPAK, 4-Leads, Body 5x4.1mm, Pitch 1.27mm, IPC Low Density)
pins: 1 S "source", 2 S "source", 3 S "source", 4 G "gate", 5 D "mounting base; connected to drain"
text: 1, 2, 3

## BUK9Y38-100E,115
designator Q?
N-Channel Logic Level MOSFET, 100 V, 30 A, 5-Pin SOT669, Tape and Reel; Manufacturer: NXP Semiconductors; PartNumber: BUK9Y38-100E,115; Automotive Qualified: Y; Channel Type: N; ID [max] (A): 30; IDM [max] (A): 120; Packing: Tape & Reel; Qr [typ] (nC): 44; VDS [max] (V): 100; VGSth [typ] (V): 1.7; PackageVersion: 13-02-27, 02/2013; PackageReference: SOT669; PackageDescription: 4-Pin Plastic Single-ended Surface Mounted Package, Body 4.9 x 3.95 mm, Pitch 1.27 mm; Supplier 1: Digi-Key; Supplier Part Number 1: 568-10978-2-ND; Supplier 2: Digi-Key; Supplier Part Number 2: 568-10978-1-ND; Supplier 3: Digi-Key; Supplier Part Number 3: 568-10978-6-ND; Supplier 4: Mouser; Supplier Part Number 4: 771-BUK9Y38-100E115; Mounting Technology: Surface Mount; Code_JEDEC: MO-235; ComponentLink1Description: Manufacturer URL; ComponentLink1URL: http://www.nxp.com/; ComponentLink2Description: Datasheet; ComponentLink2URL: http://www.nxp.com/documents/data_sheet/BUK9Y38-100E.pdf; ComponentLink3Description: Package Specification; ComponentLink3URL: http://www.nxp.com/documents/outline_drawing/sot669_po.pdf
footprint NXP-SOT669_N (DPAK, 4-Leads, Body 5x4.1mm, Pitch 1.27mm, IPC Medium Density)
footprint NXP-SOT669_L (DPAK, 4-Leads, Body 5x4.1mm, Pitch 1.27mm, IPC High Density)
footprint NXP-SOT669_M (DPAK, 4-Leads, Body 5x4.1mm, Pitch 1.27mm, IPC Low Density)
pins: 1 S "source", 2 S "source", 3 S "source", 4 G "gate", 5 D "mounting base; connected to drain"
text: 1, 2, 3

## BUK9Y40-55B,115
designator Q?
N-Channel TrenchMOS Logic Level FET, 55 V, 26 A, 5-Pin SOT669, Tape and Reel; Manufacturer: NXP Semiconductors; PartNumber: BUK9Y40-55B,115; Automotive Qualified: Y; Channel Type: N; ID [max] (A): 26; IDM [max] (A): 106; Packing: Tape & Reel; Qr [typ] (nC): 25; VDS [max] (V): 55; VGSth [typ] (V): 1.5; DatasheetVersion: Rev. 03; PackageVersion: 13-02-27, 02/2013; PackageReference: SOT669; PackageDescription: 4-Pin Plastic Single-ended Surface Mounted Package, Body 4.9 x 3.95 mm, Pitch 1.27 mm; Supplier 1: Digi-Key; Supplier Part Number 1: 568-6237-2-ND; Supplier 2: Digi-Key; Supplier Part Number 2: 568-6237-1-ND; Supplier 3: Digi-Key; Supplier Part Number 3: 568-6237-6-ND; Supplier 4: Newark; Supplier Part Number 4: 79R1856; Supplier 5: Mouser; Supplier Part Number 5: 771-BUK9Y40-55B115; Mounting Technology: Surface Mount; Code_JEDEC: MO-235; ComponentLink1Description: Manufacturer URL; ComponentLink1URL: http://www.nxp.com/; ComponentLink2Description: Datasheet; ComponentLink2URL: http://www.nxp.com/documents/data_sheet/BUK9Y40-55B.pdf; ComponentLink3Description: Package Specification; ComponentLink3URL: http://www.nxp.com/documents/outline_drawing/sot669_po.pdf
footprint NXP-SOT669_N (DPAK, 4-Leads, Body 5x4.1mm, Pitch 1.27mm, IPC Medium Density)
footprint NXP-SOT669_L (DPAK, 4-Leads, Body 5x4.1mm, Pitch 1.27mm, IPC High Density)
footprint NXP-SOT669_M (DPAK, 4-Leads, Body 5x4.1mm, Pitch 1.27mm, IPC Low Density)
pins: 1 S "source", 2 S "source", 3 S "source", 4 G "gate", 5 D "mounting base; connected to drain"
text: 1, 2, 3

## BUK9Y41-80E,115
designator Q?
N-Channel Logic Level MOSFET, 80 V, 24 A, 5-Pin SOT669, Tape and Reel; Manufacturer: NXP Semiconductors; PartNumber: BUK9Y41-80E,115; Automotive Qualified: Y; Channel Type: N; ID [max] (A): 24; IDM [max] (A): 96; Packing: Tape & Reel; Qr [typ] (nC): 22; VDS [max] (V): 80; VGSth [typ] (V): 1.7; PackageVersion: 13-02-27, 02/2013; PackageReference: SOT669; PackageDescription: 4-Pin Plastic Single-ended Surface Mounted Package, Body 4.9 x 3.95 mm, Pitch 1.27 mm; Supplier 1: Digi-Key; Supplier Part Number 1: 568-10980-2-ND; Supplier 2: Digi-Key; Supplier Part Number 2: 568-10980-1-ND; Supplier 3: Digi-Key; Supplier Part Number 3: 568-10980-6-ND; Supplier 4: Mouser; Supplier Part Number 4: 771-BUK9Y41-80E115; Mounting Technology: Surface Mount; Code_JEDEC: MO-235; ComponentLink1Description: Manufacturer URL; ComponentLink1URL: http://www.nxp.com/; ComponentLink2Description: Datasheet; ComponentLink2URL: http://www.nxp.com/documents/data_sheet/BUK9Y41-80E.pdf; ComponentLink3Description: Package Specification; ComponentLink3URL: http://www.nxp.com/documents/outline_drawing/sot669_po.pdf
footprint NXP-SOT669_N (DPAK, 4-Leads, Body 5x4.1mm, Pitch 1.27mm, IPC Medium Density)
footprint NXP-SOT669_L (DPAK, 4-Leads, Body 5x4.1mm, Pitch 1.27mm, IPC High Density)
footprint NXP-SOT669_M (DPAK, 4-Leads, Body 5x4.1mm, Pitch 1.27mm, IPC Low Density)
pins: 1 S "source", 2 S "source", 3 S "source", 4 G "gate", 5 D "mounting base; connected to drain"
text: 1, 2, 3

## BUK9Y43-60E,115
designator Q?
N-Channel Logic Level MOSFET, 60 V, 22 A, 5-Pin SOT669, Tape and Reel; Manufacturer: NXP Semiconductors; PartNumber: BUK9Y43-60E,115; Automotive Qualified: Y; Channel Type: N; ID [max] (A): 22; IDM [max] (A): 86; Packing: Tape & Reel; Qr [typ] (nC): 11.2; VDS [max] (V): 60; VGSth [typ] (V): 1.7; PackageVersion: 13-02-27, 02/2013; PackageReference: SOT669; PackageDescription: 4-Pin Plastic Single-ended Surface Mounted Package, Body 4.9 x 3.95 mm, Pitch 1.27 mm; Supplier 1: Digi-Key; Supplier Part Number 1: 568-10981-2-ND; Supplier 2: Digi-Key; Supplier Part Number 2: 568-10981-1-ND; Supplier 3: Digi-Key; Supplier Part Number 3: 568-10981-6-ND; Supplier 4: Mouser; Supplier Part Number 4: 771-BUK9Y43-60E115; Mounting Technology: Surface Mount; Code_JEDEC: MO-235; ComponentLink1Description: Manufacturer URL; ComponentLink1URL: http://www.nxp.com/; ComponentLink2Description: Datasheet; ComponentLink2URL: http://www.nxp.com/documents/data_sheet/BUK9Y43-60E.pdf; ComponentLink3Description: Package Specification; ComponentLink3URL: http://www.nxp.com/documents/outline_drawing/sot669_po.pdf
footprint NXP-SOT669_N (DPAK, 4-Leads, Body 5x4.1mm, Pitch 1.27mm, IPC Medium Density)
footprint NXP-SOT669_L (DPAK, 4-Leads, Body 5x4.1mm, Pitch 1.27mm, IPC High Density)
footprint NXP-SOT669_M (DPAK, 4-Leads, Body 5x4.1mm, Pitch 1.27mm, IPC Low Density)
pins: 1 S "source", 2 S "source", 3 S "source", 4 G "gate", 5 D "mounting base; connected to drain"
text: 1, 2, 3